# EAGLE library part 418127270903 (library 428427520910_Eagle_WS-ROTU_rev19b)
WS-DITV THT version, raise actuator without top tape sealed Specification Contact Rating Switching :25mA, 24VDC Non-Switching : 100mA, 50VDC Contact Resistance Initial: 50mΩ max. After life test: 100mΩ max. Insulation Resistance: min.100MΩ at 500VDC Dielectric Strength : 500VAC for 1 minute Operation Force :600g max. Mechanical Life : 2000 cycles Electrical Life : 2000 cycles / 25mA, 24VDC Raise Actuator type Material Cover : : PA9T UL 94 V-0, color Black Base :PA9T UL 94 V-0, color Black. Actuator :PA46 UL 94 V-0, color White Contact : : Gold Plated Terminal : Gold Plated <http://katalog.we-online.de/media/images/v2/Family_WS-DITV_THT_RAISED_ACTUATOR_4181272709xx_4C.jpg> Details see: http://katalog.we-online.de/en/em/418_127_270_9xx?sid=338a3ff20b 2015 (C) Würth Elektronik
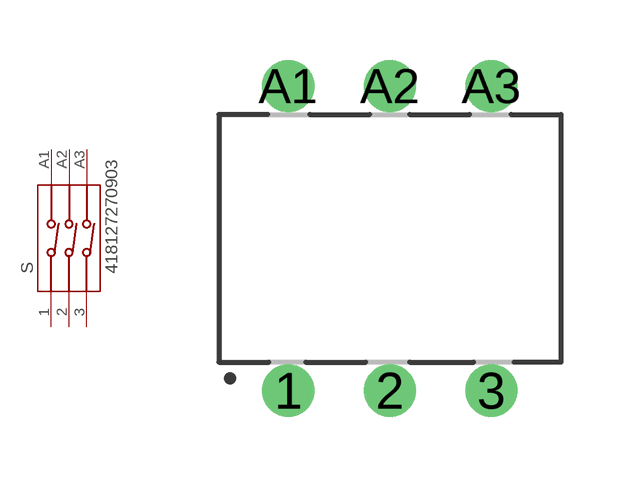
[diagram p105: symbol with the pads of 418127270903; footprint 418127270903]

Designator prefix S

## 418127270903  [418127270903]
1  1  pas
2  2  pas
3  3  pas
A1  A1  pas
A2  A2  pas
A3  A3  pas

## Footprint 418127270903 (pad centres in mm)
WS-DITV THT version, raise actuator without top tape sealed 418127270903
drill 0.8: 1 -2.54,-3.81; 2 0,-3.81; 3 2.54,-3.81; A1 -2.54,3.81; A2 0,3.81; A3 2.54,3.81